# Altium footprint library PCB_Potentiostat_revA.PcbLib: 38 footprints (part 3 of 3)
Each footprint in its own frame and in the unit in brackets; x right, y up, seen from the top. Pads: shape width x height; smd on the part's side, far side on the other; paste and mask are expansions set on the pad; w line width, h text height; cw(c..) or ccw(c..) is an arc to the next point about the centre after c.
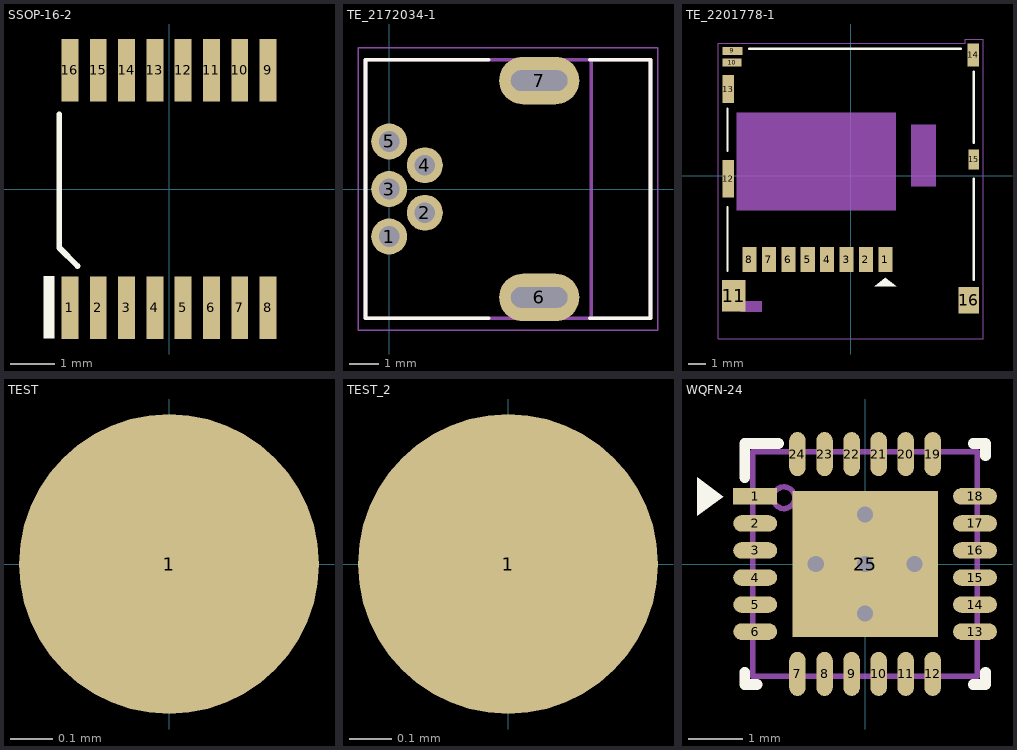
[diagram p2: the footprints below, top view; thin cyan lines are the x and y axes]

## SSOP-16-2 [mil]
height 59.06
pads (16):
  rect 15x55 smd: 1(-87.5,-105) 2(-62.5,-105) 3(-37.5,-105) 4(-12.5,-105) 5(12.5,-105) 6(37.5,-105) 7(62.5,-105) 8(87.5,-105) 9(87.5,105) 10(62.5,105) 11(37.5,105) 12(12.5,105) 13(-12.5,105) 14(-37.5,105) 15(-62.5,105) 16(-87.5,105)
Top Overlay:
  rectangle: -111,-132 -101,-77
  lines w5: -97,65.94 -97,-51.94 -80.87,-68.07
3D body "tssop_16.step": height 47, standoff -1, extent -97.53,-125.56 99.32,126.5

## TE_2172034-1 [mm]
height 1.5
pads (7):
  round 1.208 hole 0.7: 1(0,-1.6) 2(1.2,-0.8) 3(0,0) 4(1.2,0.8) 5(0,1.6)
  oval 2.7x1.6 hole 1.9 slot 0.7 at 90 deg: 6(5.05,-3.65) 7(5.05,3.65)
Top Overlay:
  lines w0.127: 3.35,-4.35 -0.8,-4.35 -0.8,4.35 3.35,4.35 ; 6.75,-4.35 8.8,-4.35 8.8,4.35 6.75,4.35
Mechanical 13:
  lines w0.05: -1.05,-4.75 9.05,-4.75 9.05,4.75 -1.05,4.75 -1.05,-4.75
  lines w0.127: 6.8,-4.35 -0.8,-4.35 -0.8,4.35 6.8,4.35 ; 6.8,-4.35 8.8,-4.35 8.8,4.35 6.8,4.35 ; 6.8,-4.35 6.8,4.35
3D body "Conector_USB_PTH.STEP": height 4.04, standoff -2.9, extent -0.794,-4.375 8.806,4.325

## TE_2201778-1 [mm]
height 1.5
pads (16):
  rect 0.8x1.4 smd: 1(1.953,-4.762) 2(0.853,-4.762) 3(-0.248,-4.762) 4(-1.348,-4.762) 5(-2.447,-4.762) 6(-3.547,-4.762) 7(-4.647,-4.762) 8(-5.747,-4.762)
  rect 1.15x0.45 smd: 9(-6.712,7.063)
  rect 1.1x0.45 smd: 10(-6.737,6.403)
  rect 1.35x1.8 smd: 11(-6.638,-6.812)
  rect 0.65x2.14 smd: 12(-6.962,-0.182)
  rect 0.65x1.6 smd: 13(-6.962,4.898)
  rect 0.65x1.3 smd: 14(6.937,6.838)
  rect 0.6x1.15 smd: 15(6.963,0.913)
  rect 1.16x1.5 smd: 16(6.683,-7.062)
Top Overlay:
  region: 1.956,-5.804 1.346,-6.286 2.565,-6.286
  lines w0.127: -6.987,-5.392 -6.987,-1.782 ; -6.987,1.398 -6.987,3.788 ; -5.783,7.188 6.228,7.188 ; 6.963,-5.912 6.963,-0.182 ; 6.963,1.838 6.963,5.898
Mechanical 13:
  region: -6.248,-7.112 -5.057,-7.112 -5.057,-7.726 -6.248,-7.726
  region: 3.413,2.888 4.812,2.888 4.812,-0.613 3.413,-0.613
  region: -6.46,3.558 2.553,3.558 2.553,-1.976 -6.46,-1.976
  lines w0.05: -7.512,-9.262 7.488,-9.262 7.488,7.738 6.488,7.738 6.488,7.488 -7.512,7.488 -7.512,-9.262
3D body "c-2201778-1-a-3d.stp": height 1.71, standoff -0.09, extent -7.1,-8.975 6.93,7.225

## TEST [mm]
height 1
pads (1):
  round 0.7 smd: 1(0,0)

## TEST_2 [mm]
pads (1):
  round 0.7 smd: 1(0,0)

## WQFN-24 [mil] "QFN, 24-Leads, Body 4x4mm, Pitch 0.5mm, Thermal Pad 2.7x2.7mm,"
height 39.37
pads (25):
  rect 32x12 smd mask+3.15: 1(-80,49.21)
  oval 32x12 smd mask+3.15: 2(-80,29.53) 3(-80,9.84) 4(-80,-9.84) 5(-80,-29.53) 6(-80,-49.21) 13(80,-49.21) 14(80,-29.53) 15(80,-9.84) 16(80,9.84) 17(80,29.53) 18(80,49.21)
  oval 12x32 smd mask+3.15: 7(-49.21,-80) 8(-29.53,-80) 9(-9.84,-80) 10(9.84,-80) 11(29.53,-80) 12(49.21,-80) 19(49.21,80) 20(29.53,80) 21(9.84,80) 22(-9.84,80) 23(-29.53,80) 24(-49.21,80)
  rect 106x106 smd paste-53.15: 25(0,0)
via 0,-36 diameter 23.62 hole 11.81
via 36,0 diameter 23.62 hole 11.81
via 0,0 diameter 23.62 hole 11.81
via -36,0 diameter 23.62 hole 11.81
via 0,36 diameter 23.62 hole 11.81
Top Overlay:
  region: -103.35,49.11 -122.35,63 -122.35,35
  lines w7.87: -87.6,-78.74 -87.6,-87.6 -78.74,-87.6 ; -87.6,62.99 -87.6,87.6 -62.99,87.6 ; 78.74,-87.6 87.6,-87.6 87.6,-78.74 ; 78.74,87.6 87.6,87.6 87.6,78.74
Top Paste:
  rectangle: 3.94,-50.71 50.71,-3.94
  region: -3.94,-3.94 -50.71,-3.94 -50.71,-50.71 -3.94,-50.71
  region: -3.94,50.71 -50.71,50.71 -50.71,3.94 -3.94,3.94
  rectangle: 3.94,3.94 50.71,50.71
Mechanical 13:
  circle w3.94: c-59.06,48.23 r7.87
  lines w3.94: -81.69,-81.69 -81.69,81.69 81.69,81.69 81.69,-81.69 -81.69,-81.69
3D body: height 39.37, standoff 0, extent -81.69,-81.69 81.69,81.69
3D body: height 39.76, standoff 19.68, extent -66.91,40.37 -51.2,56.08